# EAGLE library part LED-7SEG-12PIN-CC (library MakBit)
Multimdeia 7-segment LED display (4 digits + symbols). 12 pin in a row Common Cathode
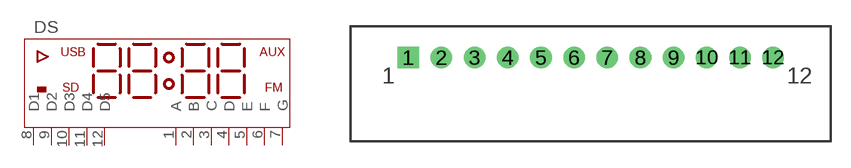
[diagram p4: symbol with the pads of LED-7SEG-12P2.54; footprint LED-7SEG-12P2.54]

Designator prefix DS

## LED-7SEG-12PIN-CC  [LED-7SEG-12P2.54]
1  A
2  B
3  C
4  D
5  E
6  F
7  G
8  D1
9  D2
10  D3
11  D4
12  D5

## Footprint LED-7SEG-12P2.54 (pad centres in mm)
7-segment LED (RED) 36.6 x 8.4 mm
drill 0.889 pad 1.651 square: 1 -13.97,2
drill 0.889 pad 1.651: 2 -11.43,2; 3 -8.89,2; 4 -6.35,2; 5 -3.81,2; 6 -1.27,2; 7 1.27,2; 8 3.81,2; 9 6.35,2; 10 8.89,2; 11 11.43,2; 12 13.97,2